# Altium schematic symbol library terminal block 2 pos.SchLib: 1 symbol
Pins are listed as number, name and electrical type; pins without a type are passive.

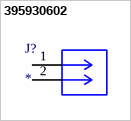
[diagram p0: symbol 395930602]

## 395930602
designator J?
MP: 395930602; Package: None; Price: None; Value: *; Availability: Unavailable
footprint CONN_SD-39543-004_NONE_02P_MOL
pins: 1, 2